# Altium footprint library MOLEX_387207503.PcbLib: 1 footprints
Each footprint in its own frame and in the unit in brackets; x right, y up, seen from the top. Pads: shape width x height; smd on the part's side, far side on the other; paste and mask are expansions set on the pad; w line width, h text height; cw(c..) or ccw(c..) is an arc to the next point about the centre after c.
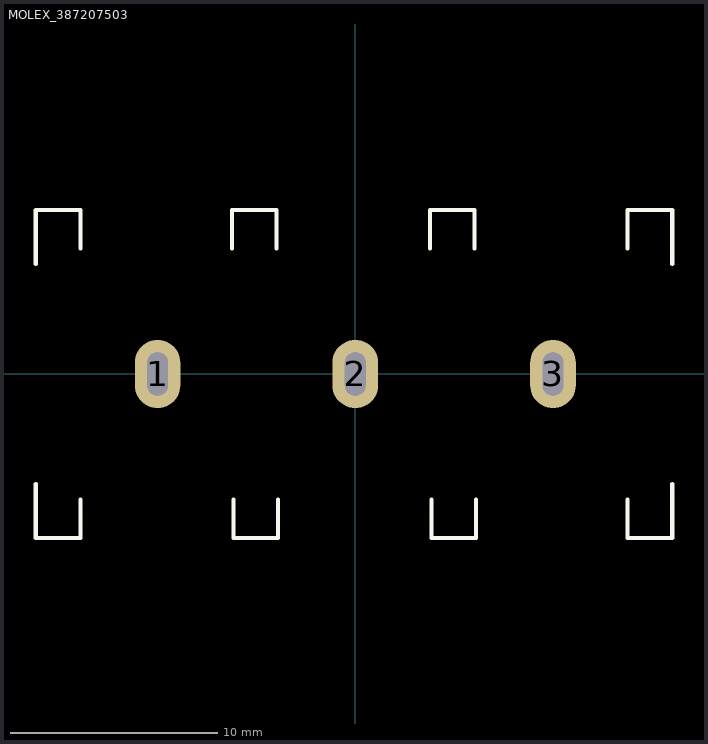
[diagram p0: the footprint, top view; thin cyan lines are the x and y axes]

## MOLEX_387207503 [mm] "Molex 3-Pos Barrier Block, 0387207503"
pads (3):
  oval 2.2x3.3 hole 2.1 slot 1 at 0 deg: 1(-9.53,0) 2(0,0) 3(9.53,0)
Top Overlay:
  lines w0.2: -15.4,-5.3 -15.4,-7.9 -13.25,-7.9 -13.25,-6.05 ; -15.4,5.3 -15.4,7.9 -13.25,7.9 -13.25,6.05 ; -5.95,6.05 -5.95,7.9 -3.8,7.9 -3.8,6.05 ; -5.875,-6.05 -5.875,-7.9 -3.725,-7.9 -3.725,-6.05 ; 3.6,6.05 3.6,7.9 5.75,7.9 5.75,6.05 ; 3.675,-6.05 3.675,-7.9 5.825,-7.9 5.825,-6.05 ; 13.125,-6.05 13.125,-7.9 15.275,-7.9 15.275,-5.3 ; 13.125,6.05 13.125,7.9 15.275,7.9 15.275,5.3
3D body "MOLEX_387207503.stp": height 16.76, standoff -4.83, extent -15.367,-7.874 15.24,7.874